# EAGLE library part TRAFO-BLOCK-VC_X/2 (library 1A-meinLib)
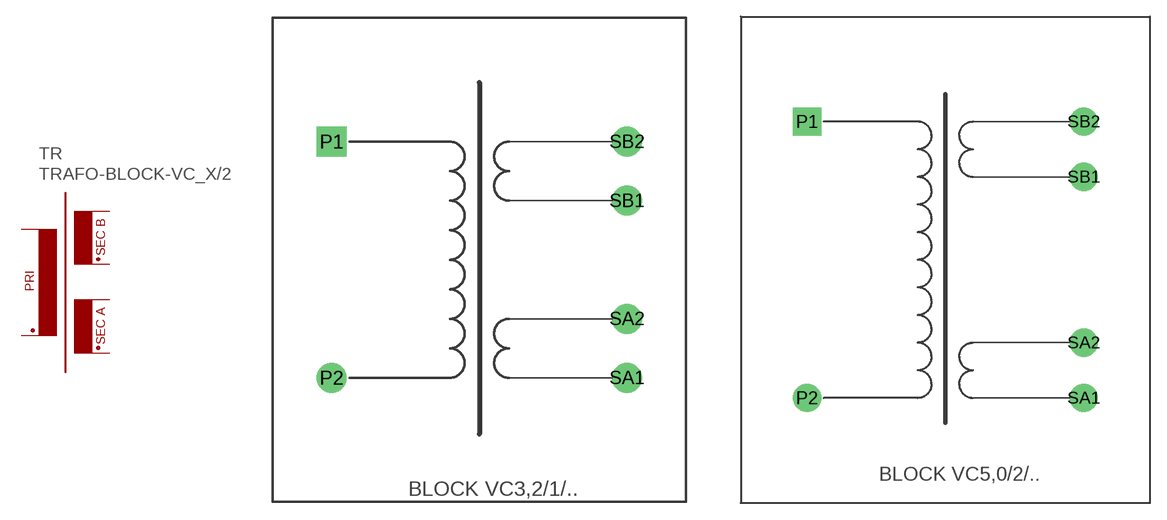
[diagram p220: symbol with the pads of TRAFO-BLOCK-VC_3,2/2; footprints TRAFO-BLOCK-VC_3,2/2, TRAFO-BLOCK-VC5,0/2]

Designator prefix TR

## TRAFO-BLOCK-VC_X/2VC_3,2/2/..  [TRAFO-BLOCK-VC_3,2/2]
P1  P1  pas
P2  P2  pas
SA1  SB2  pas
SA2  SB1  pas
SB1  SA2  pas
SB2  SA1  pas

## TRAFO-BLOCK-VC_X/2VC_5/2/..  [TRAFO-BLOCK-VC5,0/2]
Pads as for TRAFO-BLOCK-VC_3,2/2

## TRAFO-BLOCK-VC_X/2VC_10/2/..  [TRAFO-BLOCK-VC_10/2]
P1  P1  pas
P2  P2  pas
SA1  SB2  pas
SA2  SB1  pas
SAB1  SA2  pas
SB2  SA1  pas

## TRAFO-BLOCK-VC_X/2VC_16/2/..  [TRAFO-BLOCK-VC_16/2]
Pads as for TRAFO-BLOCK-VC_3,2/2

## Footprint TRAFO-BLOCK-VC_3,2/2 (pad centres in mm)
Printtransformator, 2 x sekundär, 3,2VA, 60%, 28mm hoch, 150g, BLOCK VC 3,2/2/..
drill 1.2 pad 2.54 square: P1 -12.5,10
drill 1.2 pad 2.54 round: P2 -12.5,-10; SA1 12.5,-10; SA2 12.5,-5; SB1 12.5,5; SB2 12.5,10

## Footprint TRAFO-BLOCK-VC5,0/2 (pad centres in mm)
Printtransformator, 2 x sekundär, 5,0VA, 68%, 33mm hoch, 190g, BLOCK VC 5,0/2/..
drill 1.2 pad 2.54 square: P1 -12.5,12.5
drill 1.2 pad 2.54 round: P2 -12.5,-12.5; SA1 12.5,-12.5; SA2 12.5,-7.5; SB1 12.5,7.5; SB2 12.5,12.5

## Footprint TRAFO-BLOCK-VC_10/2 (pad centres in mm)
Printtransformator, 2 x sekundär, 10VA, 74%, 35mm hoch, 280g, BLOCK VC 10/2/..
drill 1.2 pad 2.54 square: P1 -13.75,12.5
drill 1.2 pad 2.54 round: P2 -13.75,-12.5; SA1 13.75,-12.5; SA2 13.75,-7.5; SAB1 13.75,7.5; SB2 13.75,12.5

## Footprint TRAFO-BLOCK-VC_16/2 (pad centres in mm)
Printtransformator, 2 x sekundär, 16VA, 76%, 39mm hoch,420g, BLOCK VC 16/2/..
drill 1.2 pad 2.54 square: P1 -15,15
drill 1.2 pad 2.54 round: P2 -15,-15; SA1 15,-15; SA2 15,-10; SB1 15,10; SB2 15,15